# Altium schematic symbol library mt3406.SchLib: 1 symbol
Pins are listed as number, name and electrical type; pins without a type are passive.

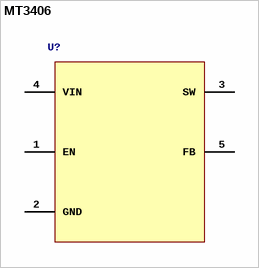
[diagram p0: symbol MT3406]

## MT3406
designator U?
-40℃~+85℃@(TA) 1 1.5MHz 10uA 1A 2V~6V 600mV~6V Adjustable Buck Buck Built-in Yes SOT-23-5 DC-DC Converters ROHS
pins: 1 EN, 2 GND, 3 SW, 4 VIN, 5 FB